# Altium schematic symbol library 常用原理图库.SchLib: 9 symbols
Pins are listed as number, name and electrical type; pins without a type are passive.

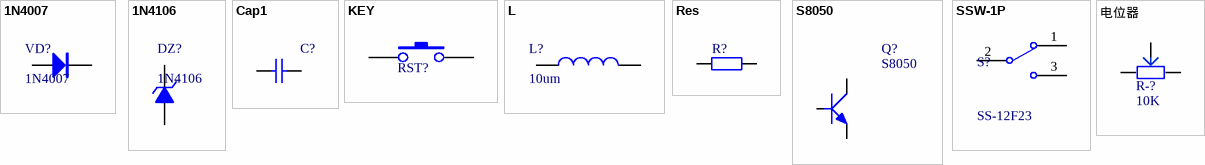
[diagram p0: symbols 1N4007 to 电位器]

## 1N4007
designator VD?
整流二极管; 版权归属: 源创客; BOM名称: 整流二极管; 学习资源: www.ooocke.com
footprint SOD-123F (2.7x1.6X1.1mm（长宽高，不包括引脚）)
pins: 1 A, 2 K

## 1N4106
designator DZ?
稳压二极管; BOM名称: 12V/0.5W稳压管; 版权归属: 源创客; 学习资源: www.ooocke.com
pins: 1 A, 2 K

## Cap1
designator C?
无极性电容
footprint C 0603 (贴片带丝印)
pins: 1, 2

## KEY
designator RST?  (value not drawn)
footprint SW
pins: 1, 2

## L
designator L?, comment 10um
电感; BOM名称: 小功率贴片电感; 版权归属: 源创客; 学习资源: www.ooocke.com
footprint L 0402 (小功率贴片电感)
footprint L 0603 (小功率贴片电感)
footprint L 0805 (小功率贴片电感)
footprint L 1206 (小功率贴片电感)
footprint L 1210 (小功率贴片电感)
footprint L 1806 (小功率贴片电感)
footprint L 1812 (小功率贴片电感)
pins: 1, 2

## Res
designator R?, comment 10K  (value not drawn)
电阻; value: 10K
footprint R 0603 (贴片带丝印)
pins: 1, 2

## S8050
designator Q?
footprint SOT23_M (SOT23, 3-Leads, Body 2.9x1.3mm, Pitch 0.95mm, Lead Span 2.3mm - Reverse Pinning, IPC Low Density)
pins: 1 B, 2 E, 3 C

## SSW-1P
designator S?, comment SS-12F23
1路波动开关; BOM名称: 波动开关
footprint MSK-12C01-07 (6.7*2.8*1.5mm(长宽高）)
pins: 1, 2, 3

## 电位器
designator R-?, comment 10K
footprint 3303W (3.5*3.1*1.5mm)
pins: 1, 2, 3